# EAGLE library part IQS360 (library gee_s)
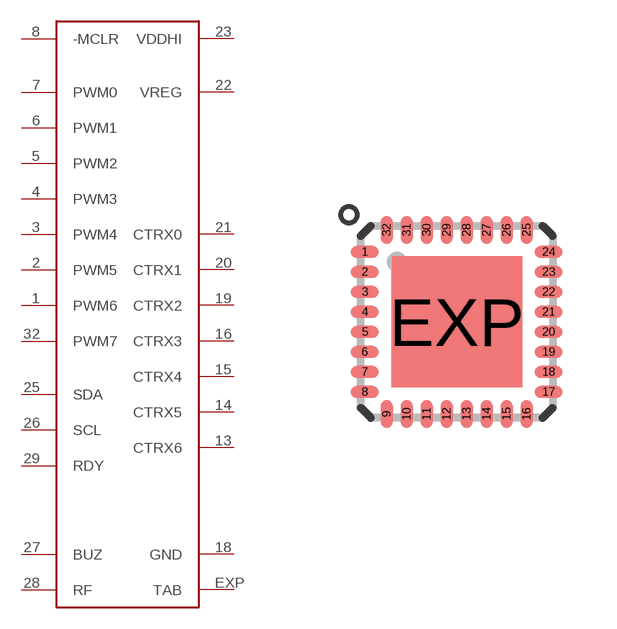
[diagram p11: symbol with the pads of QFN32; footprint QFN32]

Designator prefix -

## IQS360  [QFN32]
1  PWM6
2  PWM5
3  PWM4
4  PWM3
5  PWM2
6  PWM1
7  PWM0
8  -MCLR
13  CTRX6
14  CTRX5
15  CTRX4
16  CTRX3
18  GND
19  CTRX2
20  CTRX1
21  CTRX0
22  VREG
23  VDDHI
25  SDA
26  SCL
27  BUZ
28  RF
29  RDY
32  PWM7
EXP  TAB

## Footprint QFN32 (pad centres in mm)
32-Pin (5x5 mm) QFN Source: http://www.cypress.com .. 38-12025_0P_V.pdf
smd 0.7 x 0.3: 1 -2.3,1.75; 2 -2.3,1.25; 3 -2.3,0.75; 4 -2.3,0.25; 5 -2.3,-0.25; 6 -2.3,-0.75; 7 -2.3,-1.25; 8 -2.3,-1.75; 17 2.3,-1.75; 18 2.3,-1.25; 19 2.3,-0.75; 20 2.3,-0.25; 21 2.3,0.25; 22 2.3,0.75; 23 2.3,1.25; 24 2.3,1.75
smd 0.3 x 0.7: 9 -1.75,-2.3; 10 -1.25,-2.3; 11 -0.75,-2.3; 12 -0.25,-2.3; 13 0.25,-2.3; 14 0.75,-2.3; 15 1.25,-2.3; 16 1.75,-2.3; 25 1.75,2.3; 26 1.25,2.3; 27 0.75,2.3; 28 0.25,2.3; 29 -0.25,2.3; 30 -0.75,2.3; 31 -1.25,2.3; 32 -1.75,2.3
smd 3.276 x 3.276: EXP 0,0